# Altium schematic symbol library kmilo17pet-TI_BattMgmt.SchLib: 950 symbols (part 40 of 60)
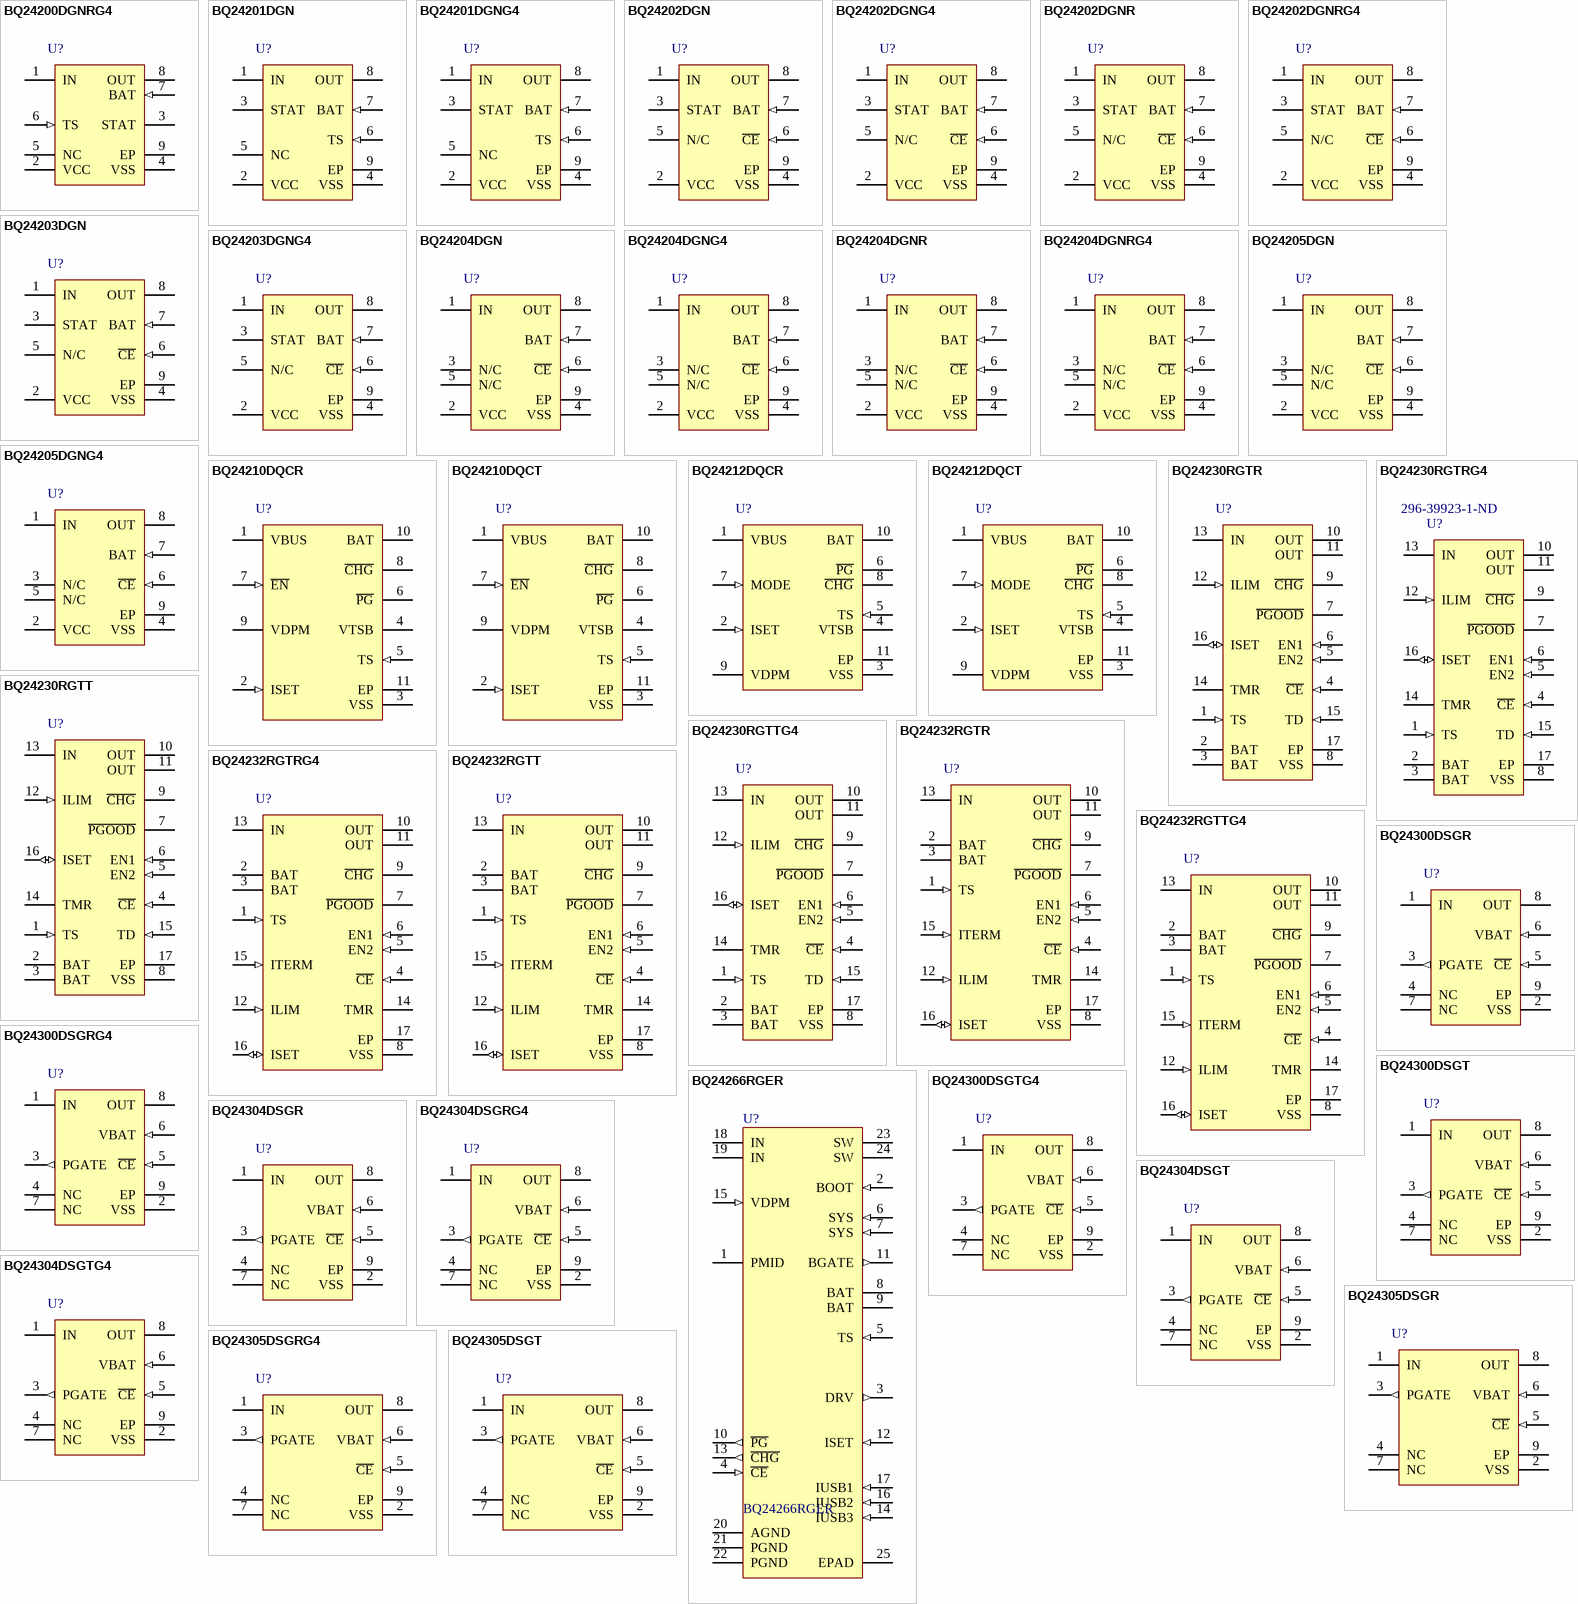
[diagram p73: symbols BQ24200DGNRG4 to BQ24305DSGT]

## BQ24202DGNR
designator U?
500 mA, 4.2 V Li-Ion Charger for Current-Limited App. with Charge Status in MSOP-8, 2.8 V, -40 to 85 degC, 8-pin MSOP-PowerPAD (DGN), Green (RoHS & no Sb/Br); PartNumber: BQ24202DGNR; Manufacturer: Texas Instruments; Lead Acid: N; Li-Ion: Y; SubFamily: Battery Charge Management; Vin(Min)(V): 2.8; DatasheetVersion: SLUS501C; PackageVersion: revF, May-2011; PackageReference: DGN8-1760X1425TP; PackageDescription: 8-Pin PowerPAD Plastic Small Outline Package 3 x 3 mm Body ,0.65 mm Pitch, Exposed Pad; Supplier 1: Digi-Key; Supplier Part Number 1: BQ24202DGNR-ND; Supplier Part Number 3: 595-BQ24202DGNR; Eco-Plan: Green (RoHS & no Sb/Br); Li-Polymer: Y; NiCd: N; NiMH: N; Over Voltage Protection: N; Mounting Technology: Surface Mount; Code_JEDEC: MO-187-AA-T; ComponentLink1Description: Datasheet; ComponentLink1URL: http://www.ti.com/general/docs/lit/getliterature.tsp?genericPartNumber=BQ24202&fileType=pdf
footprint DGN8-1760X1425TP_N (TSOP, 8-Leads, Body 3x3mm, Pitch 0.65mm, Thermal Pad 1.89x1.57mm, IPC Medium Density)
footprint DGN8-1760X1425TP_L (TSOP, 8-Leads, Body 3x3mm, Pitch 0.65mm, Thermal Pad 1.89x1.57mm, IPC High Density)
footprint DGN8-1760X1425TP_M (TSOP, 8-Leads, Body 3x3mm, Pitch 0.65mm, Thermal Pad 1.89x1.57mm, IPC Low Density)
pins: 1 IN (power) "Charge input voltage", 2 VCC (power) "VCC input", 3 STAT (hiz) "Charge status output", 4 VSS (power) "Ground input", 5 N/C "No connection. Must be left floating", 6 ~{CE} (in) "Charge enable input (active low)", 7 BAT (in) "Battery voltage sense input", 8 OUT (power) "Charge current output", 9 EP "Exposed pad"

## BQ24202DGNRG4
designator U?
500 mA, 4.2 V Li-Ion Charger for Current-Limited App. with Charge Status in MSOP-8, 2.8 V, -40 to 85 degC, 8-pin MSOP-PowerPAD (DGN), Green (RoHS & no Sb/Br); PartNumber: BQ24202DGNRG4; Manufacturer: Texas Instruments; Lead Acid: N; Li-Ion: Y; SubFamily: Battery Charge Management; Vin(Min)(V): 2.8; DatasheetVersion: SLUS501C; PackageVersion: revF, May-2011; PackageReference: DGN8-1760X1425TP; PackageDescription: 8-Pin PowerPAD Plastic Small Outline Package 3 x 3 mm Body ,0.65 mm Pitch, Exposed Pad; Supplier 1: Digi-Key; Supplier Part Number 1: BQ24202DGNRG4-ND; Supplier Part Number 3: 595-BQ24202DGNRG4; Eco-Plan: Green (RoHS & no Sb/Br); Li-Polymer: Y; NiCd: N; NiMH: N; Over Voltage Protection: N; Mounting Technology: Surface Mount; Code_JEDEC: MO-187-AA-T; ComponentLink1Description: Datasheet; ComponentLink1URL: http://www.ti.com/general/docs/lit/getliterature.tsp?genericPartNumber=BQ24202&fileType=pdf
footprint DGN8-1760X1425TP_N (TSOP, 8-Leads, Body 3x3mm, Pitch 0.65mm, Thermal Pad 1.89x1.57mm, IPC Medium Density)
footprint DGN8-1760X1425TP_L (TSOP, 8-Leads, Body 3x3mm, Pitch 0.65mm, Thermal Pad 1.89x1.57mm, IPC High Density)
footprint DGN8-1760X1425TP_M (TSOP, 8-Leads, Body 3x3mm, Pitch 0.65mm, Thermal Pad 1.89x1.57mm, IPC Low Density)
pins: 1 IN (power) "Charge input voltage", 2 VCC (power) "VCC input", 3 STAT (hiz) "Charge status output", 4 VSS (power) "Ground input", 5 N/C "No connection. Must be left floating", 6 ~{CE} (in) "Charge enable input (active low)", 7 BAT (in) "Battery voltage sense input", 8 OUT (power) "Charge current output", 9 EP "Exposed pad"

## BQ24203DGN
designator U?
500 mA, 4.1 V Li-Ion Charger for Current-Limited App. with Charge Status in MSOP-8, 2.8 V, -40 to 85 degC, 8-pin MSOP-PowerPAD (DGN), Green (RoHS & no Sb/Br); PartNumber: BQ24203DGN; Manufacturer: Texas Instruments; Lead Acid: N; Li-Ion: Y; SubFamily: Battery Charge Management; Vin(Min)(V): 2.8; DatasheetVersion: SLUS501C; PackageVersion: revF, May-2011; PackageReference: DGN8-1760X1425TP; PackageDescription: 8-Pin PowerPAD Plastic Small Outline Package 3 x 3 mm Body ,0.65 mm Pitch, Exposed Pad; Supplier 1: Digi-Key; Supplier Part Number 1: 296-12412-5-ND; Supplier Part Number 3: 74C7657; Eco-Plan: Green (RoHS & no Sb/Br); Li-Polymer: Y; NiCd: N; NiMH: N; Over Voltage Protection: N; Mounting Technology: Surface Mount; Code_JEDEC: MO-187-AA-T; ComponentLink1Description: Datasheet; ComponentLink1URL: http://www.ti.com/general/docs/lit/getliterature.tsp?genericPartNumber=BQ24203&fileType=pdf
footprint DGN8-1760X1425TP_N (TSOP, 8-Leads, Body 3x3mm, Pitch 0.65mm, Thermal Pad 1.89x1.57mm, IPC Medium Density)
footprint DGN8-1760X1425TP_L (TSOP, 8-Leads, Body 3x3mm, Pitch 0.65mm, Thermal Pad 1.89x1.57mm, IPC High Density)
footprint DGN8-1760X1425TP_M (TSOP, 8-Leads, Body 3x3mm, Pitch 0.65mm, Thermal Pad 1.89x1.57mm, IPC Low Density)
pins: 1 IN (power) "Charge input voltage", 2 VCC (power) "VCC input", 3 STAT (hiz) "Charge status output", 4 VSS (power) "Ground input", 5 N/C "No connection. Must be left floating", 6 ~{CE} (in) "Charge enable input (active low)", 7 BAT (in) "Battery voltage sense input", 8 OUT (power) "Charge current output", 9 EP "Exposed pad"

## BQ24203DGNG4
designator U?
500 mA, 4.1 V Li-Ion Charger for Current-Limited App. with Charge Status in MSOP-8, 2.8 V, -40 to 85 degC, 8-pin MSOP-PowerPAD (DGN), Green (RoHS & no Sb/Br); PartNumber: BQ24203DGNG4; Manufacturer: Texas Instruments; Lead Acid: N; Li-Ion: Y; SubFamily: Battery Charge Management; Vin(Min)(V): 2.8; DatasheetVersion: SLUS501C; PackageVersion: revF, May-2011; PackageReference: DGN8-1760X1425TP; PackageDescription: 8-Pin PowerPAD Plastic Small Outline Package 3 x 3 mm Body ,0.65 mm Pitch, Exposed Pad; Supplier 1: Digi-Key; Supplier Part Number 1: BQ24203DGNG4-ND; Supplier Part Number 3: 595-BQ24203DGNG4; Eco-Plan: Green (RoHS & no Sb/Br); Li-Polymer: Y; NiCd: N; NiMH: N; Over Voltage Protection: N; Mounting Technology: Surface Mount; Code_JEDEC: MO-187-AA-T; ComponentLink1Description: Datasheet; ComponentLink1URL: http://www.ti.com/general/docs/lit/getliterature.tsp?genericPartNumber=BQ24203&fileType=pdf
footprint DGN8-1760X1425TP_N (TSOP, 8-Leads, Body 3x3mm, Pitch 0.65mm, Thermal Pad 1.89x1.57mm, IPC Medium Density)
footprint DGN8-1760X1425TP_L (TSOP, 8-Leads, Body 3x3mm, Pitch 0.65mm, Thermal Pad 1.89x1.57mm, IPC High Density)
footprint DGN8-1760X1425TP_M (TSOP, 8-Leads, Body 3x3mm, Pitch 0.65mm, Thermal Pad 1.89x1.57mm, IPC Low Density)
pins: 1 IN (power) "Charge input voltage", 2 VCC (power) "VCC input", 3 STAT (hiz) "Charge status output", 4 VSS (power) "Ground input", 5 N/C "No connection. Must be left floating", 6 ~{CE} (in) "Charge enable input (active low)", 7 BAT (in) "Battery voltage sense input", 8 OUT (power) "Charge current output", 9 EP "Exposed pad"

## BQ24204DGN
designator U?
500 mA, 4.2 V Li-Ion Charger for Current-Limited App. in MSOP-8, 2.8 V, -40 to 85 degC, 8-pin MSOP-PowerPAD (DGN), Green (RoHS & no Sb/Br); PartNumber: BQ24204DGN; Manufacturer: Texas Instruments; Lead Acid: N; Li-Ion: Y; SubFamily: Battery Charge Management; Vin(Min)(V): 2.8; DatasheetVersion: SLUS501C; PackageVersion: revF, May-2011; PackageReference: DGN8-1760X1425TP; PackageDescription: 8-Pin PowerPAD Plastic Small Outline Package 3 x 3 mm Body ,0.65 mm Pitch, Exposed Pad; Supplier 1: Digi-Key; Supplier Part Number 1: 296-12413-5-ND; Supplier Part Number 3: 595-BQ24204DGN; Eco-Plan: Green (RoHS & no Sb/Br); Li-Polymer: Y; NiCd: N; NiMH: N; Over Voltage Protection: N; Mounting Technology: Surface Mount; Code_JEDEC: MO-187-AA-T; ComponentLink1Description: Datasheet; ComponentLink1URL: http://www.ti.com/general/docs/lit/getliterature.tsp?genericPartNumber=BQ24204&fileType=pdf
footprint DGN8-1760X1425TP_N (TSOP, 8-Leads, Body 3x3mm, Pitch 0.65mm, Thermal Pad 1.89x1.57mm, IPC Medium Density)
footprint DGN8-1760X1425TP_L (TSOP, 8-Leads, Body 3x3mm, Pitch 0.65mm, Thermal Pad 1.89x1.57mm, IPC High Density)
footprint DGN8-1760X1425TP_M (TSOP, 8-Leads, Body 3x3mm, Pitch 0.65mm, Thermal Pad 1.89x1.57mm, IPC Low Density)
pins: 1 IN (power) "Charge input voltage", 2 VCC (power) "VCC input", 3 N/C "No connection. Must be left floating", 4 VSS (power) "Ground input", 5 N/C "No connection. Must be left floating", 6 ~{CE} (in) "Charge enable input (active low)", 7 BAT (in) "Battery voltage sense input", 8 OUT (power) "Charge current output", 9 EP "Exposed pad"

## BQ24204DGNG4
designator U?
500 mA, 4.2 V Li-Ion Charger for Current-Limited App. in MSOP-8, 2.8 V, -40 to 85 degC, 8-pin MSOP-PowerPAD (DGN), Green (RoHS & no Sb/Br); PartNumber: BQ24204DGNG4; Manufacturer: Texas Instruments; Lead Acid: N; Li-Ion: Y; SubFamily: Battery Charge Management; Vin(Min)(V): 2.8; DatasheetVersion: SLUS501C; PackageVersion: revF, May-2011; PackageReference: DGN8-1760X1425TP; PackageDescription: 8-Pin PowerPAD Plastic Small Outline Package 3 x 3 mm Body ,0.65 mm Pitch, Exposed Pad; Supplier 1: Digi-Key; Supplier Part Number 1: BQ24204DGNG4-ND; Supplier Part Number 3: 595-BQ24204DGNG4; Eco-Plan: Green (RoHS & no Sb/Br); Li-Polymer: Y; NiCd: N; NiMH: N; Over Voltage Protection: N; Mounting Technology: Surface Mount; Code_JEDEC: MO-187-AA-T; ComponentLink1Description: Datasheet; ComponentLink1URL: http://www.ti.com/general/docs/lit/getliterature.tsp?genericPartNumber=BQ24204&fileType=pdf
footprint DGN8-1760X1425TP_N (TSOP, 8-Leads, Body 3x3mm, Pitch 0.65mm, Thermal Pad 1.89x1.57mm, IPC Medium Density)
footprint DGN8-1760X1425TP_L (TSOP, 8-Leads, Body 3x3mm, Pitch 0.65mm, Thermal Pad 1.89x1.57mm, IPC High Density)
footprint DGN8-1760X1425TP_M (TSOP, 8-Leads, Body 3x3mm, Pitch 0.65mm, Thermal Pad 1.89x1.57mm, IPC Low Density)
pins: 1 IN (power) "Charge input voltage", 2 VCC (power) "VCC input", 3 N/C "No connection. Must be left floating", 4 VSS (power) "Ground input", 5 N/C "No connection. Must be left floating", 6 ~{CE} (in) "Charge enable input (active low)", 7 BAT (in) "Battery voltage sense input", 8 OUT (power) "Charge current output", 9 EP "Exposed pad"

## BQ24204DGNR
designator U?
500 mA, 4.2 V Li-Ion Charger for Current-Limited App. in MSOP-8, 2.8 V, -40 to 85 degC, 8-pin MSOP-PowerPAD (DGN), Green (RoHS & no Sb/Br); PartNumber: BQ24204DGNR; Manufacturer: Texas Instruments; Lead Acid: N; Li-Ion: Y; SubFamily: Battery Charge Management; Vin(Min)(V): 2.8; DatasheetVersion: SLUS501C; PackageVersion: revF, May-2011; PackageReference: DGN8-1760X1425TP; PackageDescription: 8-Pin PowerPAD Plastic Small Outline Package 3 x 3 mm Body ,0.65 mm Pitch, Exposed Pad; Supplier 1: Digi-Key; Supplier Part Number 1: BQ24204DGNR-ND; Supplier Part Number 3: 595-BQ24204DGNR; Eco-Plan: Green (RoHS & no Sb/Br); Li-Polymer: Y; NiCd: N; NiMH: N; Over Voltage Protection: N; Mounting Technology: Surface Mount; Code_JEDEC: MO-187-AA-T; ComponentLink1Description: Datasheet; ComponentLink1URL: http://www.ti.com/general/docs/lit/getliterature.tsp?genericPartNumber=BQ24204&fileType=pdf
footprint DGN8-1760X1425TP_N (TSOP, 8-Leads, Body 3x3mm, Pitch 0.65mm, Thermal Pad 1.89x1.57mm, IPC Medium Density)
footprint DGN8-1760X1425TP_L (TSOP, 8-Leads, Body 3x3mm, Pitch 0.65mm, Thermal Pad 1.89x1.57mm, IPC High Density)
footprint DGN8-1760X1425TP_M (TSOP, 8-Leads, Body 3x3mm, Pitch 0.65mm, Thermal Pad 1.89x1.57mm, IPC Low Density)
pins: 1 IN (power) "Charge input voltage", 2 VCC (power) "VCC input", 3 N/C "No connection. Must be left floating", 4 VSS (power) "Ground input", 5 N/C "No connection. Must be left floating", 6 ~{CE} (in) "Charge enable input (active low)", 7 BAT (in) "Battery voltage sense input", 8 OUT (power) "Charge current output", 9 EP "Exposed pad"

## BQ24204DGNRG4
designator U?
500 mA, 4.2 V Li-Ion Charger for Current-Limited App. in MSOP-8, 2.8 V, -40 to 85 degC, 8-pin MSOP-PowerPAD (DGN), Green (RoHS & no Sb/Br); PartNumber: BQ24204DGNRG4; Manufacturer: Texas Instruments; Lead Acid: N; Li-Ion: Y; SubFamily: Battery Charge Management; Vin(Min)(V): 2.8; DatasheetVersion: SLUS501C; PackageVersion: revF, May-2011; PackageReference: DGN8-1760X1425TP; PackageDescription: 8-Pin PowerPAD Plastic Small Outline Package 3 x 3 mm Body ,0.65 mm Pitch, Exposed Pad; Supplier 1: Digi-Key; Supplier Part Number 1: BQ24204DGNRG4-ND; Supplier Part Number 3: 595-BQ24204DGNRG4; Eco-Plan: Green (RoHS & no Sb/Br); Li-Polymer: Y; NiCd: N; NiMH: N; Over Voltage Protection: N; Mounting Technology: Surface Mount; Code_JEDEC: MO-187-AA-T; ComponentLink1Description: Datasheet; ComponentLink1URL: http://www.ti.com/general/docs/lit/getliterature.tsp?genericPartNumber=BQ24204&fileType=pdf
footprint DGN8-1760X1425TP_N (TSOP, 8-Leads, Body 3x3mm, Pitch 0.65mm, Thermal Pad 1.89x1.57mm, IPC Medium Density)
footprint DGN8-1760X1425TP_L (TSOP, 8-Leads, Body 3x3mm, Pitch 0.65mm, Thermal Pad 1.89x1.57mm, IPC High Density)
footprint DGN8-1760X1425TP_M (TSOP, 8-Leads, Body 3x3mm, Pitch 0.65mm, Thermal Pad 1.89x1.57mm, IPC Low Density)
pins: 1 IN (power) "Charge input voltage", 2 VCC (power) "VCC input", 3 N/C "No connection. Must be left floating", 4 VSS (power) "Ground input", 5 N/C "No connection. Must be left floating", 6 ~{CE} (in) "Charge enable input (active low)", 7 BAT (in) "Battery voltage sense input", 8 OUT (power) "Charge current output", 9 EP "Exposed pad"

## BQ24205DGN
designator U?
500 mA, 4.1 V Li-Ion Charger for Current-Limited App. in MSOP-8, 2.8 V, -40 to 85 degC, 8-pin MSOP-PowerPAD (DGN), Green (RoHS & no Sb/Br); PartNumber: BQ24205DGN; Manufacturer: Texas Instruments; Lead Acid: N; Li-Ion: Y; SubFamily: Battery Charge Management; Vin(Min)(V): 2.8; DatasheetVersion: SLUS501C; PackageVersion: revF, May-2011; PackageReference: DGN8-1760X1425TP; PackageDescription: 8-Pin PowerPAD Plastic Small Outline Package 3 x 3 mm Body ,0.65 mm Pitch, Exposed Pad; Supplier 1: Digi-Key; Supplier Part Number 1: 296-12414-5-ND; Supplier Part Number 3: 595-BQ24205DGN; Eco-Plan: Green (RoHS & no Sb/Br); Li-Polymer: Y; NiCd: N; NiMH: N; Over Voltage Protection: N; Mounting Technology: Surface Mount; Code_JEDEC: MO-187-AA-T; ComponentLink1Description: Datasheet; ComponentLink1URL: http://www.ti.com/general/docs/lit/getliterature.tsp?genericPartNumber=BQ24205&fileType=pdf
footprint DGN8-1760X1425TP_N (TSOP, 8-Leads, Body 3x3mm, Pitch 0.65mm, Thermal Pad 1.89x1.57mm, IPC Medium Density)
footprint DGN8-1760X1425TP_L (TSOP, 8-Leads, Body 3x3mm, Pitch 0.65mm, Thermal Pad 1.89x1.57mm, IPC High Density)
footprint DGN8-1760X1425TP_M (TSOP, 8-Leads, Body 3x3mm, Pitch 0.65mm, Thermal Pad 1.89x1.57mm, IPC Low Density)
pins: 1 IN (power) "Charge input voltage", 2 VCC (power) "VCC input", 3 N/C "No connection. Must be left floating", 4 VSS (power) "Ground input", 5 N/C "No connection. Must be left floating", 6 ~{CE} (in) "Charge enable input (active low)", 7 BAT (in) "Battery voltage sense input", 8 OUT (power) "Charge current output", 9 EP "Exposed pad"

## BQ24205DGNG4
designator U?
500 mA, 4.1 V Li-Ion Charger for Current-Limited App. in MSOP-8, 2.8 V, -40 to 85 degC, 8-pin MSOP-PowerPAD (DGN), Green (RoHS & no Sb/Br); PartNumber: BQ24205DGNG4; Manufacturer: Texas Instruments; Lead Acid: N; Li-Ion: Y; SubFamily: Battery Charge Management; Vin(Min)(V): 2.8; DatasheetVersion: SLUS501C; PackageVersion: revF, May-2011; PackageReference: DGN8-1760X1425TP; PackageDescription: 8-Pin PowerPAD Plastic Small Outline Package 3 x 3 mm Body ,0.65 mm Pitch, Exposed Pad; Supplier 1: Digi-Key; Supplier Part Number 1: BQ24205DGNG4-ND; Supplier Part Number 3: 595-BQ24205DGNG4; Eco-Plan: Green (RoHS & no Sb/Br); Li-Polymer: Y; NiCd: N; NiMH: N; Over Voltage Protection: N; Mounting Technology: Surface Mount; Code_JEDEC: MO-187-AA-T; ComponentLink1Description: Datasheet; ComponentLink1URL: http://www.ti.com/general/docs/lit/getliterature.tsp?genericPartNumber=BQ24205&fileType=pdf
footprint DGN8-1760X1425TP_N (TSOP, 8-Leads, Body 3x3mm, Pitch 0.65mm, Thermal Pad 1.89x1.57mm, IPC Medium Density)
footprint DGN8-1760X1425TP_L (TSOP, 8-Leads, Body 3x3mm, Pitch 0.65mm, Thermal Pad 1.89x1.57mm, IPC High Density)
footprint DGN8-1760X1425TP_M (TSOP, 8-Leads, Body 3x3mm, Pitch 0.65mm, Thermal Pad 1.89x1.57mm, IPC Low Density)
pins: 1 IN (power) "Charge input voltage", 2 VCC (power) "VCC input", 3 N/C "No connection. Must be left floating", 4 VSS (power) "Ground input", 5 N/C "No connection. Must be left floating", 6 ~{CE} (in) "Charge enable input (active low)", 7 BAT (in) "Battery voltage sense input", 8 OUT (power) "Charge current output", 9 EP "Exposed pad"

## BQ24210DQCR
designator U?
800 mA, Single-Input, Single Cell Li-Ion Solar Battery Charger, 3.5 V, -40 to 85 degC, 10-pin WSON (DQC), Green (RoHS & no Sb/Br); PartNumber: BQ24210DQCR; Manufacturer: Texas Instruments; Lead Acid: N; SubFamily: Battery Charge Management; Vin(Min)(V): 3.5; DatasheetVersion: SLUSA76A; PackageVersion: revA, Jul-2008; PackageReference: DQC10-2400X840TP; PackageDescription: 10-Pin Plastic Small Outline No-Lead, 2 x 3 x 0.8 mm Body, 0.5 mm Pitch, Exposed Pad; Supplier 1: Digi-Key; Supplier Part Number 1: BQ24210DQCR-ND; Supplier Part Number 3: 595-BQ24210DQCR; Eco-Plan: Green (RoHS & no Sb/Br); Li-Ion: N; Li-Polymer: N; NiCd: N; NiMH: N; Over Voltage Protection: N; Mounting Technology: Surface Mount; ComponentLink1Description: Datasheet; ComponentLink1URL: http://www.ti.com/general/docs/lit/getliterature.tsp?genericPartNumber=BQ24210&fileType=pdf
footprint DQC10-2400X840TP (SON, 10-Leads, Body 2x3mm, Pitch 0.5mm, Thermal Pad 2.4x0.84mm)
pins: 1 VBUS (power) "For Charging Mode, input for charging source, connect to external DC supply (ie, Solar Panel, Inductive charging PAD, or Wall Adapter) For Load Mode, output for current limited battery voltage. Expected range of bypass (See Datasheet)", 2 ISET (in) "Programs the Fast-charge current setting. External resistor from ISET to VSS defines fast charge current value.", 3 VSS (power) "Ground terminal.", 4 VTSB "TS bias reference voltage pin, regulated output. No external capacitor is required from VTSB to VSS. Only enabled during charge.", 5 TS (in) "Temperature sense pin, connected to NTC Thermistor in the battery pack. Pulling High puts part in Limited Power charging mode. Must not be left floating.", 6 ~{PG} (hiz) "Power Present indication. LOW (FET ON) When input voltage is in normal range (VBUS>BAT and VBUS>UVLO), High impedance (open drain FET OFF) in other cases.", 7 ~{EN} (in) "Chip enable control. Low to enable Charge or Load Mode, and High to enable Suspend mode.", 8 ~{CHG} (hiz) "Charge Status indication, Low (FET ON) indicates charging, and High impedance (open drain FET OFF) in other cases", 9 VDPM "Programs the input voltage regulation threshold. Expected range of programming resistor is 1 k ohm to 10 k ohm, connected from VDPM to VSS. When VDPM is floating, the VIN DPM loop operates in battery tracking mode, and the (See Datasheet)", 10 BAT (power) "Battery Connection. System Load may be connected. Expected range of bypass capacitors 1 uF to 10 uF, connected from BAT to VSS.", 11 EP (power) "There is an internal electrical connection between the exposed thermal pad and the VSS pin of the device. The thermal pad must be connected to the same potential as the VSS pin on the printed circuit board. Do not use the (See Datasheet)"

## BQ24210DQCT
designator U?
800 mA, Single-Input, Single Cell Li-Ion Solar Battery Charger, 3.5 V, -40 to 85 degC, 10-pin WSON (DQC), Green (RoHS & no Sb/Br); PartNumber: BQ24210DQCT; Manufacturer: Texas Instruments; Lead Acid: N; SubFamily: Battery Charge Management; Vin(Min)(V): 3.5; DatasheetVersion: SLUSA76A; PackageVersion: revA, Jul-2008; PackageReference: DQC10-2400X840TP; PackageDescription: 10-Pin Plastic Small Outline No-Lead, 2 x 3 x 0.8 mm Body, 0.5 mm Pitch, Exposed Pad; Supplier 1: Digi-Key; Supplier Part Number 1: 296-28738-2-ND; Supplier Part Number 3: 296-28738-6-ND; Eco-Plan: Green (RoHS & no Sb/Br); Li-Ion: N; Li-Polymer: N; NiCd: N; NiMH: N; Over Voltage Protection: N; Mounting Technology: Surface Mount; ComponentLink1Description: Datasheet; ComponentLink1URL: http://www.ti.com/general/docs/lit/getliterature.tsp?genericPartNumber=BQ24210&fileType=pdf
footprint DQC10-2400X840TP (SON, 10-Leads, Body 2x3mm, Pitch 0.5mm, Thermal Pad 2.4x0.84mm)
pins: 1 VBUS (power) "For Charging Mode, input for charging source, connect to external DC supply (ie, Solar Panel, Inductive charging PAD, or Wall Adapter) For Load Mode, output for current limited battery voltage. Expected range of bypass (See Datasheet)", 2 ISET (in) "Programs the Fast-charge current setting. External resistor from ISET to VSS defines fast charge current value.", 3 VSS (power) "Ground terminal.", 4 VTSB "TS bias reference voltage pin, regulated output. No external capacitor is required from VTSB to VSS. Only enabled during charge.", 5 TS (in) "Temperature sense pin, connected to NTC Thermistor in the battery pack. Pulling High puts part in Limited Power charging mode. Must not be left floating.", 6 ~{PG} (hiz) "Power Present indication. LOW (FET ON) When input voltage is in normal range (VBUS>BAT and VBUS>UVLO), High impedance (open drain FET OFF) in other cases.", 7 ~{EN} (in) "Chip enable control. Low to enable Charge or Load Mode, and High to enable Suspend mode.", 8 ~{CHG} (hiz) "Charge Status indication, Low (FET ON) indicates charging, and High impedance (open drain FET OFF) in other cases", 9 VDPM "Programs the input voltage regulation threshold. Expected range of programming resistor is 1 k ohm to 10 k ohm, connected from VDPM to VSS. When VDPM is floating, the VIN DPM loop operates in battery tracking mode, and the (See Datasheet)", 10 BAT (power) "Battery Connection. System Load may be connected. Expected range of bypass capacitors 1 uF to 10 uF, connected from BAT to VSS.", 11 EP (power) "There is an internal electrical connection between the exposed thermal pad and the VSS pin of the device. The thermal pad must be connected to the same potential as the VSS pin on the printed circuit board. Do not use the (See Datasheet)"

## BQ24212DQCR
designator U?
800 mA, Single-Input, Single Cell Li-Ion Battery Solar Charger, -40 to 85 degC, 10-pin WSON (DQC), Green (RoHS & no Sb/Br); PartNumber: BQ24212DQCR; Manufacturer: Texas Instruments; Lead Acid: N; SubFamily: Battery Charge Management; DatasheetVersion: SLUSAL3; PackageVersion: revA, Jul-2008; PackageReference: DQC10-2400X840TP; PackageDescription: 10-Pin Plastic Small Outline No-Lead, 2 x 3 x 0.8 mm Body, 0.5 mm Pitch, Exposed Pad; Supplier 1: Mouser; Supplier Part Number 1: N/A; Eco-Plan: Green (RoHS & no Sb/Br); Li-Ion: N; Li-Polymer: N; NiCd: N; NiMH: N; Over Voltage Protection: N; Mounting Technology: Surface Mount; ComponentLink1Description: Datasheet; ComponentLink1URL: http://www.ti.com/general/docs/lit/getliterature.tsp?genericPartNumber=BQ24212&fileType=pdf
footprint DQC10-2400X840TP (SON, 10-Leads, Body 2x3mm, Pitch 0.5mm, Thermal Pad 2.4x0.84mm)
pins: 1 VBUS (power) "For Charging Mode, input for charging source, connect to external DC supply (ie Solar Panel, Inductive charging PAD, or Wall Adapter) For Load Mode, output for current limited battery voltage. Expected range of bypass (See Datasheet)", 2 ISET (in) "Programs the Fast-charge current setting. External resistor from ISET to VSS defines fast charge current value.", 3 VSS (power) "Ground terminal", 4 VTSB "TS bias reference voltage pin, regulated output. No external capacitor is required from VTSB to VSS. Only enabled during charge.", 5 TS (in) "Temperature sense pin, connected to NTC Thermistor in the battery pack. Pulling High puts part in Limited Power charging mode. Must not be left floating.", 6 ~{PG} (hiz) "Power Present indication. LOW (FET ON) When input voltage is in normal range (VBUS>BAT & VBUS>UVLO),High impedance (open drain FET OFF) in other cases.", 7 MODE (in) "Mode control. Low to enable Charge Mode or High to enable Load mode.", 8 ~{CHG} (hiz) "Charge Status indication, Low (FET ON) indicates charging, and High impedance (open drain FET OFF) in other cases", 9 VDPM "Programs the input voltage regulation threshold. Expected range of programming resistor is 1k to 10kohm,connected from VDPM to VSS. When VDPM is floating, the VIN DPM loop operates in battery tracking mode,and the VIN DPM (See Datasheet)", 10 BAT (power) "Battery Connection. System Load may be connected. Expected range of bypass capacitors 1uF to 10uF,connected from BAT to VSS.", 11 EP (power) "There is an internal electrical connection between the exposed thermal pad and the VSS pin of the device. The thermal pad must be connected to the same potential as the VSS pin on the printed circuit board. Do not use the (See Datasheet)"

## BQ24212DQCT
designator U?
800 mA, Single-Input, Single Cell Li-Ion Battery Solar Charger, -40 to 85 degC, 10-pin WSON (DQC), Green (RoHS & no Sb/Br); PartNumber: BQ24212DQCT; Manufacturer: Texas Instruments; Lead Acid: N; SubFamily: Battery Charge Management; DatasheetVersion: SLUSAL3; PackageVersion: revA, Jul-2008; PackageReference: DQC10-2400X840TP; PackageDescription: 10-Pin Plastic Small Outline No-Lead, 2 x 3 x 0.8 mm Body, 0.5 mm Pitch, Exposed Pad; Supplier 1: Mouser; Supplier Part Number 1: N/A; Eco-Plan: Green (RoHS & no Sb/Br); Li-Ion: N; Li-Polymer: N; NiCd: N; NiMH: N; Over Voltage Protection: N; Mounting Technology: Surface Mount; ComponentLink1Description: Datasheet; ComponentLink1URL: http://www.ti.com/general/docs/lit/getliterature.tsp?genericPartNumber=BQ24212&fileType=pdf
footprint DQC10-2400X840TP (SON, 10-Leads, Body 2x3mm, Pitch 0.5mm, Thermal Pad 2.4x0.84mm)
pins: 1 VBUS (power) "For Charging Mode, input for charging source, connect to external DC supply (ie Solar Panel, Inductive charging PAD, or Wall Adapter) For Load Mode, output for current limited battery voltage. Expected range of bypass (See Datasheet)", 2 ISET (in) "Programs the Fast-charge current setting. External resistor from ISET to VSS defines fast charge current value.", 3 VSS (power) "Ground terminal", 4 VTSB "TS bias reference voltage pin, regulated output. No external capacitor is required from VTSB to VSS. Only enabled during charge.", 5 TS (in) "Temperature sense pin, connected to NTC Thermistor in the battery pack. Pulling High puts part in Limited Power charging mode. Must not be left floating.", 6 ~{PG} (hiz) "Power Present indication. LOW (FET ON) When input voltage is in normal range (VBUS>BAT & VBUS>UVLO),High impedance (open drain FET OFF) in other cases.", 7 MODE (in) "Mode control. Low to enable Charge Mode or High to enable Load mode.", 8 ~{CHG} (hiz) "Charge Status indication, Low (FET ON) indicates charging, and High impedance (open drain FET OFF) in other cases", 9 VDPM "Programs the input voltage regulation threshold. Expected range of programming resistor is 1k to 10kohm,connected from VDPM to VSS. When VDPM is floating, the VIN DPM loop operates in battery tracking mode,and the VIN DPM (See Datasheet)", 10 BAT (power) "Battery Connection. System Load may be connected. Expected range of bypass capacitors 1uF to 10uF,connected from BAT to VSS.", 11 EP (power) "There is an internal electrical connection between the exposed thermal pad and the VSS pin of the device. The thermal pad must be connected to the same potential as the VSS pin on the printed circuit board. Do not use the (See Datasheet)"

## BQ24230RGTR
designator U?
USB Friendly 0.5 A Li+ Charger with Dynamic Power Management, 6.6 V OVP, 4.3 V, -40 to 85 degC, 16-pin QFN (RGT), Green (RoHS & no Sb/Br); PartNumber: BQ24230RGTR; Manufacturer: Texas Instruments; Lead Acid: N; SubFamily: Battery Charge Management; Vin(Min)(V): 4.3; DatasheetVersion: SLUS821C; PackageVersion: revH, Oct-2011; PackageReference: RGT16-1700X1700TP; PackageDescription: 16-Pin Plastic Quad Flat No-Lead, 3 x 3 mm Body, 0.5 mm Pitch, 1.7 x 1.7 mm Exposed Pad; Supplier 1: Digi-Key; Supplier Part Number 1: 296-23937-2-ND; Supplier Part Number 3: 296-23937-6-ND; Eco-Plan: Green (RoHS & no Sb/Br); Li-Ion: N; Li-Polymer: N; NiCd: N; NiMH: N; Over Voltage Protection: N; Mounting Technology: Surface Mount; Code_JEDEC: MO-220; ComponentLink1Description: Datasheet; ComponentLink1URL: http://www.ti.com/general/docs/lit/getliterature.tsp?genericPartNumber=BQ24230&fileType=pdf
footprint RGT16-1700X1700TP (QFN, 16-Leads, Body 3x3mm, Pitch 0.5mm, Thermal Pad 1.7x1.7mm, TI Recommended)
pins: 1 TS (in) "External NTC Thermistor Input. Connect the TS input to the NTC thermistor in the battery pack. TS monitors a 10-k ohm NTC thermistor. For applications that do not utilize the TS function, connect a 10-k ohm fixed resistor (See Datasheet)", 2 BAT (power) "Charger Power Stage Output and Battery Voltage Sense Input. Connect BAT to the positive terminal of the battery. Bypass BAT to VSS with a 4.7-uF to 47-uF ceramic capacitor.", 3 BAT (power) "Charger Power Stage Output and Battery Voltage Sense Input. Connect BAT to the positive terminal of the battery. Bypass BAT to VSS with a 4.7-uF to 47-uF ceramic capacitor.", 4 ~{CE} (in) "Charge Enable Active-Low Input. Connect C\E\ to a high logic level to place the battery charger in standby mode. In standby mode, OUT is active and battery supplement mode is still available. Connect C\E\ to a low logic (See Datasheet)", 5 EN2 (in) "Input Current Limit Configuration Inputs. Use EN1 and EN2 control the maximum input current and enable USB compliance. See Table 2 for the description of the operation states. EN1 and EN2 are internally pulled down with ~285 (See Datasheet)", 6 EN1 (in) "Input Current Limit Configuration Inputs. Use EN1 and EN2 control the maximum input current and enable USB compliance. See Table 2 for the description of the operation states. EN1 and EN2 are internally pulled down with ~285 (See Datasheet)", 7 ~{PGOOD} (hiz) "Open-drain Power Good Status Indication Output. P\G\O\O\D\ pulls to VSS when a valid input source is detected. P\G\O\O\D\ is high-impedance when the input power is not within specified limits. Connect P\G\O\O\D\ to the (See Datasheet)", 8 VSS (power) "Ground. Connect to the thermal pad and to the ground rail of the circuit.", 9 ~{CHG} (hiz) "Open-Drain Charging Status Indication Output. C\H\G\ pulls to VSS when the battery is charging. C\H\G\ is high impedance when charging is complete and when charger is disabled.", 10 OUT (power) "System Supply Output. OUT provides a regulated output when the input is below the OVP threshold and above the regulation voltage. When the input is out of the operation range, OUT is connected to VBAT. Connect OUT to the (See Datasheet)", 11 OUT (power) "System Supply Output. OUT provides a regulated output when the input is below the OVP threshold and above the regulation voltage. When the input is out of the operation range, OUT is connected to VBAT. Connect OUT to the (See Datasheet)", 12 ILIM (in) "Adjustable Current Limit Programming Input. Connect a 3.1-k ohm to 7.8-k ohm resistor from ILIM to VSS to program the maximum input current (EN2=1, EN1=0). The input current includes the system load and the battery charge (See Datasheet)", 13 IN (power) "Input Power Connection. Connect IN to the connected to external DC supply (AC adapter or USB port). The input operating range is 4.35 V to 6.6 V. The input can accept voltages up to 26 V without damage but operation is (See Datasheet)", 14 TMR "Timer Programming Input. TMR controls the precharge and fast-charge safety timers. Connect TMR to VSS to disable all safety timers. Connect a 18-k ohm to 72-k ohm resistor between TMR and VSS to program the timers a desired (See Datasheet)", 15 TD (in) "Termination Dsable Input. Connect TD high to disable charger termination. Connect TD to VSS to enable charger termination. TD is checked during start-up only and cannot be changed during operation. See the TD section in this (See Datasheet)", 16 ISET (io) "Fast-Charge Current Programming Input. Connect a 3-k ohm to 36-k ohm resistor from ISET to VSS to program the fast-charge current level. Charging is disabled if ISET is left unconnected. While charging, the voltage at ISET (See Datasheet)", 17 EP (power) "An internal electrical connection exists between the exposed thermal pad and the VSS pin of the device. The thermal pad must be connected to the same potential as the VSS pin on the printed-circuit board. Do not use the (See Datasheet)"

## BQ24230RGTRG4
designator U?  Supplier Part Number 2: 296-39923-1-ND
USB Friendly 0.5 A Li+ Charger with Dynamic Power Management, 6.6 V OVP, 4.3 V, -40 to 85 degC, 16-pin QFN (RGT), Green (RoHS & no Sb/Br); PartNumber: BQ24230RGTRG4; Manufacturer: Texas Instruments; Lead Acid: N; SubFamily: Battery Charge Management; Vin(Min)(V): 4.3; DatasheetVersion: SLUS821C; PackageVersion: revH, Oct-2011; PackageReference: RGT16-1700X1700TP; PackageDescription: 16-Pin Plastic Quad Flat No-Lead, 3 x 3 mm Body, 0.5 mm Pitch, 1.7 x 1.7 mm Exposed Pad; Supplier 1: Digi-Key; Supplier Part Number 1: BQ24230RGTRG4-ND; Eco-Plan: Green (RoHS & no Sb/Br); Li-Ion: N; Li-Polymer: N; NiCd: N; NiMH: N; Over Voltage Protection: N; Mounting Technology: Surface Mount; Code_JEDEC: MO-220; ComponentLink1Description: Datasheet; ComponentLink1URL: http://www.ti.com/general/docs/lit/getliterature.tsp?genericPartNumber=BQ24230&fileType=pdf; Supplier 2: Digi-Key
footprint RGT16-1700X1700TP (QFN, 16-Leads, Body 3x3mm, Pitch 0.5mm, Thermal Pad 1.7x1.7mm, TI Recommended)
pins: 1 TS (in) "External NTC Thermistor Input. Connect the TS input to the NTC thermistor in the battery pack. TS monitors a 10-k ohm NTC thermistor. For applications that do not utilize the TS function, connect a 10-k ohm fixed resistor (See Datasheet)", 2 BAT (power) "Charger Power Stage Output and Battery Voltage Sense Input. Connect BAT to the positive terminal of the battery. Bypass BAT to VSS with a 4.7-uF to 47-uF ceramic capacitor.", 3 BAT (power) "Charger Power Stage Output and Battery Voltage Sense Input. Connect BAT to the positive terminal of the battery. Bypass BAT to VSS with a 4.7-uF to 47-uF ceramic capacitor.", 4 ~{CE} (in) "Charge Enable Active-Low Input. Connect C\E\ to a high logic level to place the battery charger in standby mode. In standby mode, OUT is active and battery supplement mode is still available. Connect C\E\ to a low logic (See Datasheet)", 5 EN2 (in) "Input Current Limit Configuration Inputs. Use EN1 and EN2 control the maximum input current and enable USB compliance. See Table 2 for the description of the operation states. EN1 and EN2 are internally pulled down with ~285 (See Datasheet)", 6 EN1 (in) "Input Current Limit Configuration Inputs. Use EN1 and EN2 control the maximum input current and enable USB compliance. See Table 2 for the description of the operation states. EN1 and EN2 are internally pulled down with ~285 (See Datasheet)", 7 ~{PGOOD} (hiz) "Open-drain Power Good Status Indication Output. P\G\O\O\D\ pulls to VSS when a valid input source is detected. P\G\O\O\D\ is high-impedance when the input power is not within specified limits. Connect P\G\O\O\D\ to the (See Datasheet)", 8 VSS (power) "Ground. Connect to the thermal pad and to the ground rail of the circuit.", 9 ~{CHG} (hiz) "Open-Drain Charging Status Indication Output. C\H\G\ pulls to VSS when the battery is charging. C\H\G\ is high impedance when charging is complete and when charger is disabled.", 10 OUT (power) "System Supply Output. OUT provides a regulated output when the input is below the OVP threshold and above the regulation voltage. When the input is out of the operation range, OUT is connected to VBAT. Connect OUT to the (See Datasheet)", 11 OUT (power) "System Supply Output. OUT provides a regulated output when the input is below the OVP threshold and above the regulation voltage. When the input is out of the operation range, OUT is connected to VBAT. Connect OUT to the (See Datasheet)", 12 ILIM (in) "Adjustable Current Limit Programming Input. Connect a 3.1-k ohm to 7.8-k ohm resistor from ILIM to VSS to program the maximum input current (EN2=1, EN1=0). The input current includes the system load and the battery charge (See Datasheet)", 13 IN (power) "Input Power Connection. Connect IN to the connected to external DC supply (AC adapter or USB port). The input operating range is 4.35 V to 6.6 V. The input can accept voltages up to 26 V without damage but operation is (See Datasheet)", 14 TMR "Timer Programming Input. TMR controls the precharge and fast-charge safety timers. Connect TMR to VSS to disable all safety timers. Connect a 18-k ohm to 72-k ohm resistor between TMR and VSS to program the timers a desired (See Datasheet)", 15 TD (in) "Termination Dsable Input. Connect TD high to disable charger termination. Connect TD to VSS to enable charger termination. TD is checked during start-up only and cannot be changed during operation. See the TD section in this (See Datasheet)", 16 ISET (io) "Fast-Charge Current Programming Input. Connect a 3-k ohm to 36-k ohm resistor from ISET to VSS to program the fast-charge current level. Charging is disabled if ISET is left unconnected. While charging, the voltage at ISET (See Datasheet)", 17 EP (power) "An internal electrical connection exists between the exposed thermal pad and the VSS pin of the device. The thermal pad must be connected to the same potential as the VSS pin on the printed-circuit board. Do not use the (See Datasheet)"

## BQ24230RGTT
designator U?
USB Friendly 0.5 A Li+ Charger with Dynamic Power Management, 6.6 V OVP, 4.3 V, -40 to 85 degC, 16-pin QFN (RGT), Green (RoHS & no Sb/Br); PartNumber: BQ24230RGTT; Manufacturer: Texas Instruments; Lead Acid: N; SubFamily: Battery Charge Management; Vin(Min)(V): 4.3; DatasheetVersion: SLUS821C; PackageVersion: revH, Oct-2011; PackageReference: RGT16-1700X1700TP; PackageDescription: 16-Pin Plastic Quad Flat No-Lead, 3 x 3 mm Body, 0.5 mm Pitch, 1.7 x 1.7 mm Exposed Pad; Supplier 1: Digi-Key; Supplier Part Number 1: 296-24667-2-ND; Supplier Part Number 3: 296-24667-6-ND; Eco-Plan: Green (RoHS & no Sb/Br); Li-Ion: N; Li-Polymer: N; NiCd: N; NiMH: N; Over Voltage Protection: N; Mounting Technology: Surface Mount; Code_JEDEC: MO-220; ComponentLink1Description: Datasheet; ComponentLink1URL: http://www.ti.com/general/docs/lit/getliterature.tsp?genericPartNumber=BQ24230&fileType=pdf
footprint RGT16-1700X1700TP (QFN, 16-Leads, Body 3x3mm, Pitch 0.5mm, Thermal Pad 1.7x1.7mm, TI Recommended)
pins: 1 TS (in) "External NTC Thermistor Input. Connect the TS input to the NTC thermistor in the battery pack. TS monitors a 10-k ohm NTC thermistor. For applications that do not utilize the TS function, connect a 10-k ohm fixed resistor (See Datasheet)", 2 BAT (power) "Charger Power Stage Output and Battery Voltage Sense Input. Connect BAT to the positive terminal of the battery. Bypass BAT to VSS with a 4.7-uF to 47-uF ceramic capacitor.", 3 BAT (power) "Charger Power Stage Output and Battery Voltage Sense Input. Connect BAT to the positive terminal of the battery. Bypass BAT to VSS with a 4.7-uF to 47-uF ceramic capacitor.", 4 ~{CE} (in) "Charge Enable Active-Low Input. Connect C\E\ to a high logic level to place the battery charger in standby mode. In standby mode, OUT is active and battery supplement mode is still available. Connect C\E\ to a low logic (See Datasheet)", 5 EN2 (in) "Input Current Limit Configuration Inputs. Use EN1 and EN2 control the maximum input current and enable USB compliance. See Table 2 for the description of the operation states. EN1 and EN2 are internally pulled down with ~285 (See Datasheet)", 6 EN1 (in) "Input Current Limit Configuration Inputs. Use EN1 and EN2 control the maximum input current and enable USB compliance. See Table 2 for the description of the operation states. EN1 and EN2 are internally pulled down with ~285 (See Datasheet)", 7 ~{PGOOD} (hiz) "Open-drain Power Good Status Indication Output. P\G\O\O\D\ pulls to VSS when a valid input source is detected. P\G\O\O\D\ is high-impedance when the input power is not within specified limits. Connect P\G\O\O\D\ to the (See Datasheet)", 8 VSS (power) "Ground. Connect to the thermal pad and to the ground rail of the circuit.", 9 ~{CHG} (hiz) "Open-Drain Charging Status Indication Output. C\H\G\ pulls to VSS when the battery is charging. C\H\G\ is high impedance when charging is complete and when charger is disabled.", 10 OUT (power) "System Supply Output. OUT provides a regulated output when the input is below the OVP threshold and above the regulation voltage. When the input is out of the operation range, OUT is connected to VBAT. Connect OUT to the (See Datasheet)", 11 OUT (power) "System Supply Output. OUT provides a regulated output when the input is below the OVP threshold and above the regulation voltage. When the input is out of the operation range, OUT is connected to VBAT. Connect OUT to the (See Datasheet)", 12 ILIM (in) "Adjustable Current Limit Programming Input. Connect a 3.1-k ohm to 7.8-k ohm resistor from ILIM to VSS to program the maximum input current (EN2=1, EN1=0). The input current includes the system load and the battery charge (See Datasheet)", 13 IN (power) "Input Power Connection. Connect IN to the connected to external DC supply (AC adapter or USB port). The input operating range is 4.35 V to 6.6 V. The input can accept voltages up to 26 V without damage but operation is (See Datasheet)", 14 TMR "Timer Programming Input. TMR controls the precharge and fast-charge safety timers. Connect TMR to VSS to disable all safety timers. Connect a 18-k ohm to 72-k ohm resistor between TMR and VSS to program the timers a desired (See Datasheet)", 15 TD (in) "Termination Dsable Input. Connect TD high to disable charger termination. Connect TD to VSS to enable charger termination. TD is checked during start-up only and cannot be changed during operation. See the TD section in this (See Datasheet)", 16 ISET (io) "Fast-Charge Current Programming Input. Connect a 3-k ohm to 36-k ohm resistor from ISET to VSS to program the fast-charge current level. Charging is disabled if ISET is left unconnected. While charging, the voltage at ISET (See Datasheet)", 17 EP (power) "An internal electrical connection exists between the exposed thermal pad and the VSS pin of the device. The thermal pad must be connected to the same potential as the VSS pin on the printed-circuit board. Do not use the (See Datasheet)"

## BQ24230RGTTG4
designator U?
USB Friendly 0.5 A Li+ Charger with Dynamic Power Management, 6.6 V OVP, 4.3 V, -40 to 85 degC, 16-pin QFN (RGT), Green (RoHS & no Sb/Br); PartNumber: BQ24230RGTTG4; Manufacturer: Texas Instruments; Lead Acid: N; SubFamily: Battery Charge Management; Vin(Min)(V): 4.3; DatasheetVersion: SLUS821C; PackageVersion: revH, Oct-2011; PackageReference: RGT16-1700X1700TP; PackageDescription: 16-Pin Plastic Quad Flat No-Lead, 3 x 3 mm Body, 0.5 mm Pitch, 1.7 x 1.7 mm Exposed Pad; Supplier 1: Digi-Key; Supplier Part Number 1: BQ24230RGTTG4-ND; Supplier Part Number 3: 595-BQ24230RGTTG4; Eco-Plan: Green (RoHS & no Sb/Br); Li-Ion: N; Li-Polymer: N; NiCd: N; NiMH: N; Over Voltage Protection: N; Mounting Technology: Surface Mount; Code_JEDEC: MO-220; ComponentLink1Description: Datasheet; ComponentLink1URL: http://www.ti.com/general/docs/lit/getliterature.tsp?genericPartNumber=BQ24230&fileType=pdf
footprint RGT16-1700X1700TP (QFN, 16-Leads, Body 3x3mm, Pitch 0.5mm, Thermal Pad 1.7x1.7mm, TI Recommended)
pins: 1 TS (in) "External NTC Thermistor Input. Connect the TS input to the NTC thermistor in the battery pack. TS monitors a 10-k ohm NTC thermistor. For applications that do not utilize the TS function, connect a 10-k ohm fixed resistor (See Datasheet)", 2 BAT (power) "Charger Power Stage Output and Battery Voltage Sense Input. Connect BAT to the positive terminal of the battery. Bypass BAT to VSS with a 4.7-uF to 47-uF ceramic capacitor.", 3 BAT (power) "Charger Power Stage Output and Battery Voltage Sense Input. Connect BAT to the positive terminal of the battery. Bypass BAT to VSS with a 4.7-uF to 47-uF ceramic capacitor.", 4 ~{CE} (in) "Charge Enable Active-Low Input. Connect C\E\ to a high logic level to place the battery charger in standby mode. In standby mode, OUT is active and battery supplement mode is still available. Connect C\E\ to a low logic (See Datasheet)", 5 EN2 (in) "Input Current Limit Configuration Inputs. Use EN1 and EN2 control the maximum input current and enable USB compliance. See Table 2 for the description of the operation states. EN1 and EN2 are internally pulled down with ~285 (See Datasheet)", 6 EN1 (in) "Input Current Limit Configuration Inputs. Use EN1 and EN2 control the maximum input current and enable USB compliance. See Table 2 for the description of the operation states. EN1 and EN2 are internally pulled down with ~285 (See Datasheet)", 7 ~{PGOOD} (hiz) "Open-drain Power Good Status Indication Output. P\G\O\O\D\ pulls to VSS when a valid input source is detected. P\G\O\O\D\ is high-impedance when the input power is not within specified limits. Connect P\G\O\O\D\ to the (See Datasheet)", 8 VSS (power) "Ground. Connect to the thermal pad and to the ground rail of the circuit.", 9 ~{CHG} (hiz) "Open-Drain Charging Status Indication Output. C\H\G\ pulls to VSS when the battery is charging. C\H\G\ is high impedance when charging is complete and when charger is disabled.", 10 OUT (power) "System Supply Output. OUT provides a regulated output when the input is below the OVP threshold and above the regulation voltage. When the input is out of the operation range, OUT is connected to VBAT. Connect OUT to the (See Datasheet)", 11 OUT (power) "System Supply Output. OUT provides a regulated output when the input is below the OVP threshold and above the regulation voltage. When the input is out of the operation range, OUT is connected to VBAT. Connect OUT to the (See Datasheet)", 12 ILIM (in) "Adjustable Current Limit Programming Input. Connect a 3.1-k ohm to 7.8-k ohm resistor from ILIM to VSS to program the maximum input current (EN2=1, EN1=0). The input current includes the system load and the battery charge (See Datasheet)", 13 IN (power) "Input Power Connection. Connect IN to the connected to external DC supply (AC adapter or USB port). The input operating range is 4.35 V to 6.6 V. The input can accept voltages up to 26 V without damage but operation is (See Datasheet)", 14 TMR "Timer Programming Input. TMR controls the precharge and fast-charge safety timers. Connect TMR to VSS to disable all safety timers. Connect a 18-k ohm to 72-k ohm resistor between TMR and VSS to program the timers a desired (See Datasheet)", 15 TD (in) "Termination Dsable Input. Connect TD high to disable charger termination. Connect TD to VSS to enable charger termination. TD is checked during start-up only and cannot be changed during operation. See the TD section in this (See Datasheet)", 16 ISET (io) "Fast-Charge Current Programming Input. Connect a 3-k ohm to 36-k ohm resistor from ISET to VSS to program the fast-charge current level. Charging is disabled if ISET is left unconnected. While charging, the voltage at ISET (See Datasheet)", 17 EP (power) "An internal electrical connection exists between the exposed thermal pad and the VSS pin of the device. The thermal pad must be connected to the same potential as the VSS pin on the printed-circuit board. Do not use the (See Datasheet)"